# Altium footprint library LM324DR.PcbLib: 2 footprints
Each footprint in its own frame and in the unit in brackets; x right, y up, seen from the top. Pads: shape width x height; smd on the part's side, far side on the other; paste and mask are expansions set on the pad; w line width, h text height; cw(c..) or ccw(c..) is an arc to the next point about the centre after c.
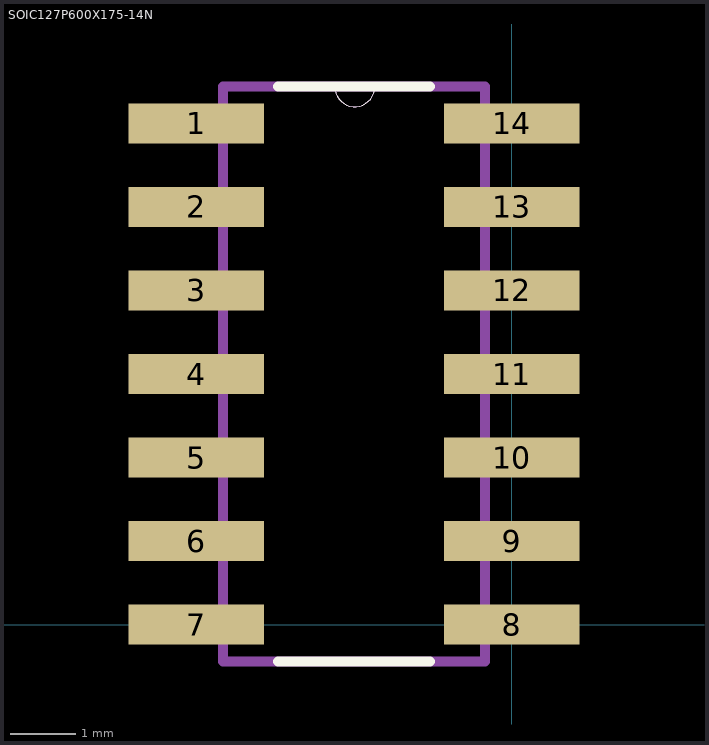
[diagram p0: the footprints below, top view; thin cyan lines are the x and y axes]

## PCBComponent_1 [mil]

## SOIC127P600X175-14N [mil]
pads (14):
  rect 81x24 smd: 1(-189,300) 2(-189,250) 3(-189,200) 4(-189,150) 5(-189,100) 6(-189,50) 7(-189,0) 8(0,0) 9(0,50) 10(0,100) 11(0,150) 12(0,200) 13(0,250) 14(0,300)
Top Overlay:
  lines w0: -106,322 ccw(c-94,322) -82,322
  lines w6: -140,-22 -49,-22 ; -140,322 -106,322 -82,322 -49,322
Mechanical 4:
  lines w0: -106,322 ccw(c-94,322) -82,322 cw(c-94,322) -106,322
  lines w6: -173,-22 -173,322 ; -173,-22 -16,-22 ; -173,-22 -173,322 ; -173,-22 -16,-22 ; -173,322 -106,322 ; -173,322 -106,322 ; -106,322 -82,322 ; -106,322 -82,322 ; -82,322 -16,322 ; -82,322 -16,322 ; -16,-22 -16,322 ; -16,-22 -16,322 ; -189,0 -173,0 -189,0 ; -189,50 -173,50 -189,50 ; -189,100 -173,100 -189,100 ; -189,150 -173,150 -189,150 ; -189,200 -173,200 -189,200 ; -189,250 -173,250 -189,250 ; -189,300 -173,300 -189,300 ; -16,0 0,0 -16,0 ; -16,50 0,50 -16,50 ; -16,100 0,100 -16,100 ; -16,150 0,150 -16,150 ; -16,200 0,200 -16,200 ; -16,250 0,250 -16,250 ; -16,300 0,300 -16,300